# EAGLE library part LINEAR_78L*SMD (library Piezoverstärker_v3.0)
Positive VOLTAGE REGULATOR
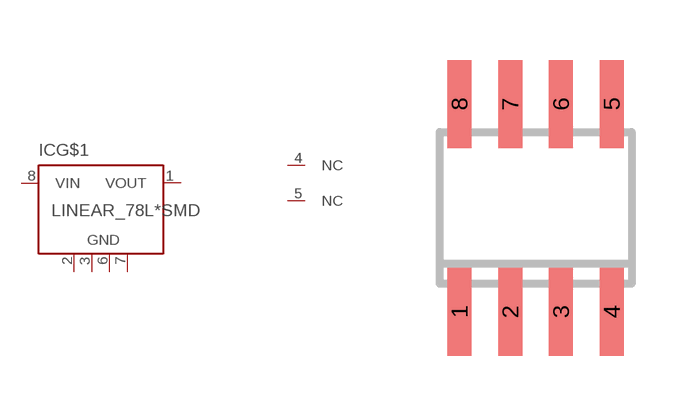
[diagram p6: symbol with the pads of LINEAR_SO08; footprint LINEAR_SO08]

Designator prefix IC; gates G$1=LINEAR_LM78LXX NC4=LINEAR_NC NC5=LINEAR_NC

## LINEAR_78LSMD, LINEAR_78L05SMD, LINEAR_78L06SMD, LINEAR_78L08SMD, LINEAR_78L12SMD, LINEAR_78L15SMD, LINEAR_78L18SMD, LINEAR_78L24SMD  [LINEAR_SO08]
1  G$1:VOUT  out
2  G$1:GND  pwr
3  G$1:GND  pwr
4  NC4:NC  nc
5  NC5:NC  nc
6  G$1:GND  pwr
7  G$1:GND  pwr
8  G$1:VIN  pas

## Footprint LINEAR_SO08 (pad centres in mm)
Small Outline Package 8 NS Package M08A
smd 0.6 x 2.2: 1 -1.905,-2.6; 2 -0.635,-2.6; 3 0.635,-2.6; 4 1.905,-2.6; 5 1.905,2.6; 6 0.635,2.6; 7 -0.635,2.6; 8 -1.905,2.6